# Altium footprint library SOT95P280X145-6N.PcbLib: 1 footprints
Each footprint in its own frame and in the unit in brackets; x right, y up, seen from the top. Pads: shape width x height; smd on the part's side, far side on the other; paste and mask are expansions set on the pad; w line width, h text height; cw(c..) or ccw(c..) is an arc to the next point about the centre after c.
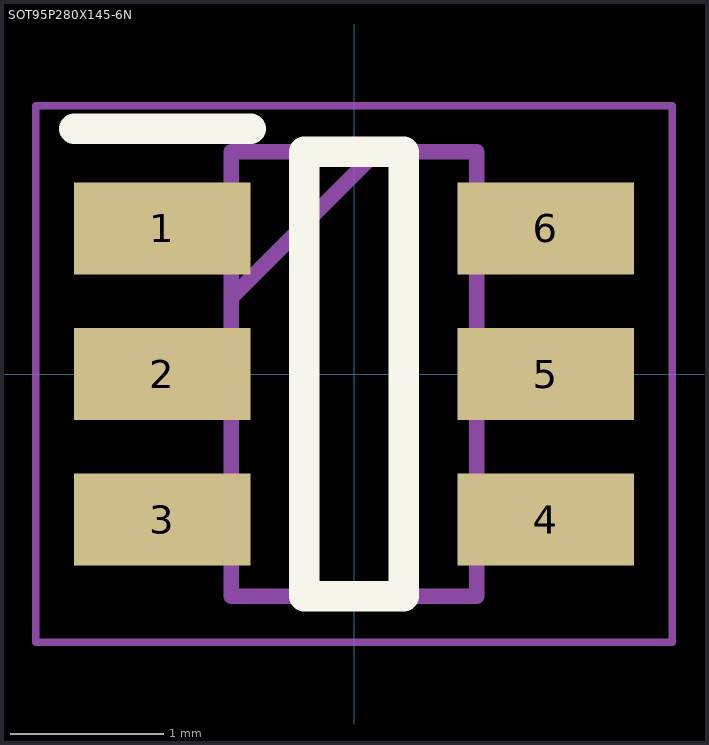
[diagram p0: the footprint, top view; thin cyan lines are the x and y axes]

## SOT95P280X145-6N [mm]
pads (6):
  rect 1.15x0.6 smd: 1(-1.25,0.95) 2(-1.25,0) 3(-1.25,-0.95) 4(1.25,-0.95) 5(1.25,0) 6(1.25,0.95)
Top Overlay:
  lines w0.2: -1.825,1.6 -0.675,1.6 ; -0.325,-1.45 0.325,-1.45 0.325,1.45 -0.325,1.45 -0.325,-1.45
Mechanical 15:
  lines w0.1: -0.8,0.5 0.15,1.45 ; -0.8,-1.45 0.8,-1.45 0.8,1.45 -0.8,1.45 -0.8,-1.45
Mechanical 20:
  lines w0.05: -2.075,-1.75 2.075,-1.75 2.075,1.75 -2.075,1.75 -2.075,-1.75
3D body "AP22653W6-7.stp": height 1.45, standoff 0, extent -1.4,-1.45 1.4,1.45